# EAGLE library part OLED_P6 (library wheat)
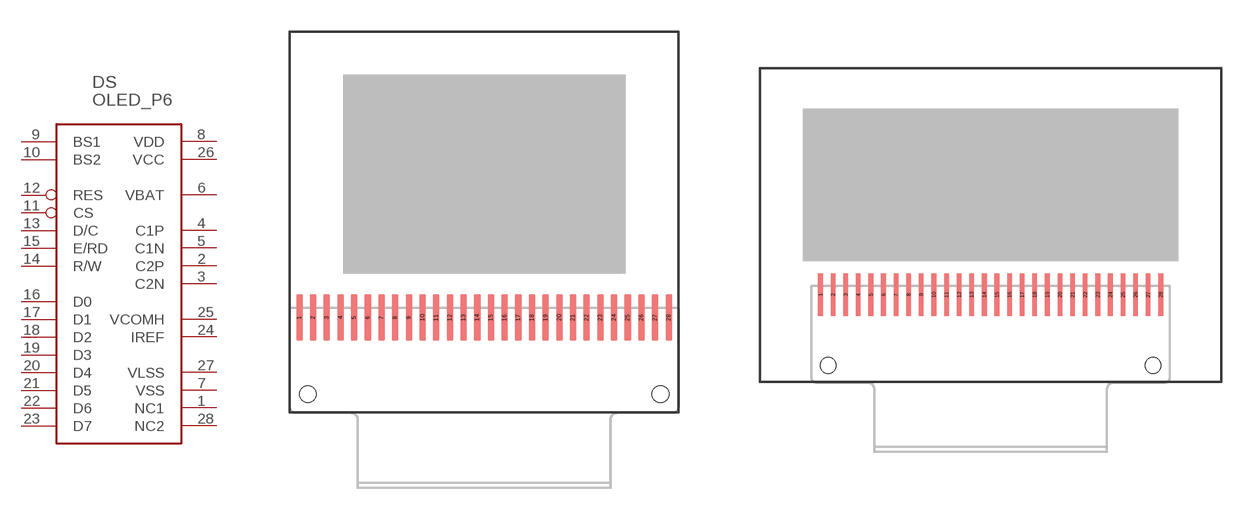
[diagram p201: symbol with the pads of OLED_P66; footprints OLED_P66, OLED_P83]

Designator prefix DS

## OLED_P6  [OLED_P66]
1  NC1
2  C2P
3  C2N
4  C1P
5  C1N
6  VBAT
7  VSS
8  VDD
9  BS1
10  BS2
11  CS
12  RES
13  D/C
14  R/W
15  E/RD
16  D0
17  D1
18  D2
19  D3
20  D4
21  D5
22  D6
23  D7
24  IREF
25  VCOMH
26  VCC
27  VLSS
28  NC2

## OLED_P6_P83  [OLED_P83]
Pads as for OLED_P66

## Footprint OLED_P66 (pad centres in mm)
smd 0.3 x 2.2: 1 -8.775,6.5; 2 -8.125,6.5; 3 -7.475,6.5; 4 -6.825,6.5; 5 -6.175,6.5; 6 -5.525,6.5; 7 -4.875,6.5; 8 -4.225,6.5; 9 -3.575,6.5; 10 -2.925,6.5; 11 -2.275,6.5; 12 -1.625,6.5; 13 -0.975,6.5; 14 -0.325,6.5; 15 0.325,6.5; 16 0.975,6.5; 17 1.625,6.5; 18 2.275,6.5; 19 2.925,6.5; 20 3.575,6.5; 21 4.225,6.5; 22 4.875,6.5; 23 5.525,6.5; 24 6.175,6.5; 25 6.825,6.5; 26 7.475,6.5; 27 8.125,6.5; 28 8.775,6.5
hole 0.8 at -8.375,2.86
hole 0.8 at 8.375,2.86

## Footprint OLED_P83 (pad centres in mm)
smd 0.3 x 2.2: 1 -8.775,6.5; 2 -8.125,6.5; 3 -7.475,6.5; 4 -6.825,6.5; 5 -6.175,6.5; 6 -5.525,6.5; 7 -4.875,6.5; 8 -4.225,6.5; 9 -3.575,6.5; 10 -2.925,6.5; 11 -2.275,6.5; 12 -1.625,6.5; 13 -0.975,6.5; 14 -0.325,6.5; 15 0.325,6.5; 16 0.975,6.5; 17 1.625,6.5; 18 2.275,6.5; 19 2.925,6.5; 20 3.575,6.5; 21 4.225,6.5; 22 4.875,6.5; 23 5.525,6.5; 24 6.175,6.5; 25 6.825,6.5; 26 7.475,6.5; 27 8.125,6.5; 28 8.775,6.5
hole 0.8 at -8.375,2.86
hole 0.8 at 8.375,2.86